# Altium footprint library TX-D_Series.PcbLib: 1 footprints
Each footprint in its own frame and in the unit in brackets; x right, y up, seen from the top. Pads: shape width x height; smd on the part's side, far side on the other; paste and mask are expansions set on the pad; w line width, h text height; cw(c..) or ccw(c..) is an arc to the next point about the centre after c.
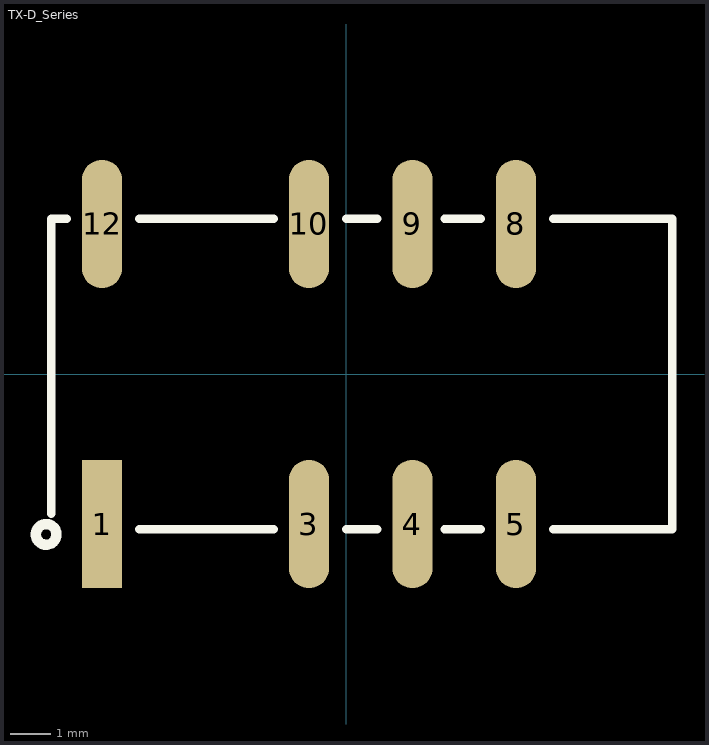
[diagram p0: the footprint, top view; thin cyan lines are the x and y axes]

## TX-D_Series [mil]
pads (8):
  rect 39x124 smd: 1(-236,-145)
  oval 39x124 smd: 3(-36,-145) 4(64,-145) 5(164,-145) 8(164,145) 9(64,145) 10(-36,145) 12(-236,145)
Top Overlay:
  circle w10: c-290,-155 r10
  lines w8: -285,-135 -285,150 -270,150 ; -200,-150 -70,-150 ; -200,150 -70,150 ; 0,-150 30,-150 ; 0,150 30,150 ; 95,-150 130,-150 ; 95,150 130,150 ; 200,-150 315,-150 315,150 200,150
3D body: height 333, standoff 1.35, extent -281,-185 310,185